# EAGLE library part GS4910B (library gennum)
HD/SD/Graphics Clock and Timing Generator with GENLOCK Source: http://www.gennum.com/video/pdf/36655DOC.pdf
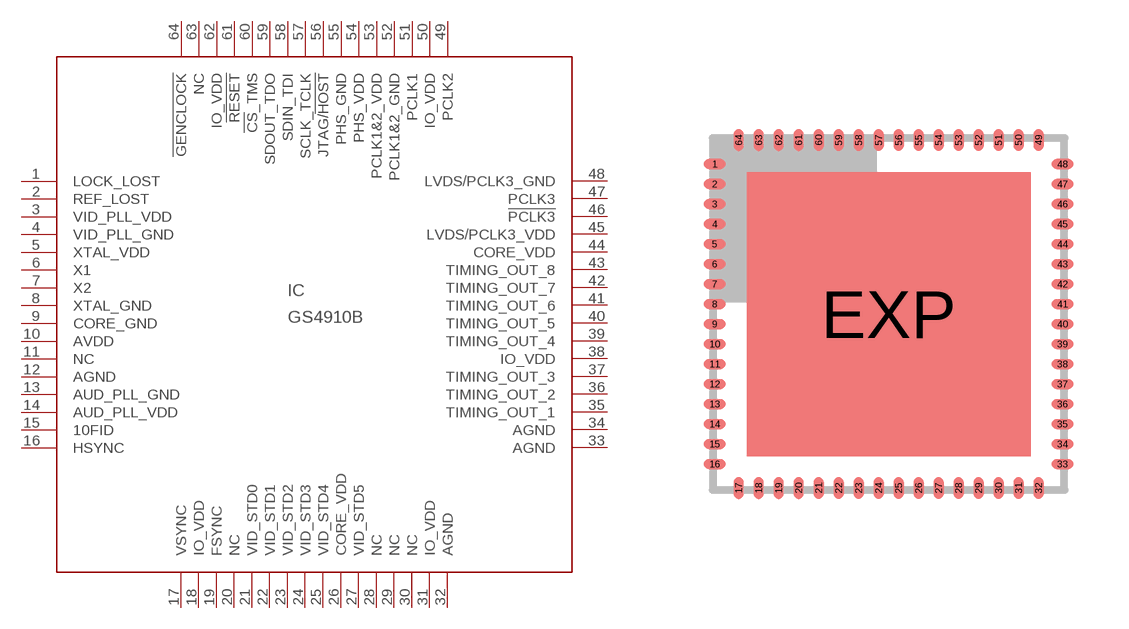
[diagram p1: symbol with the pads of QFN64-9X9; footprint QFN64-9X9]

Designator prefix IC

## GS4910B (OC_FARNELL: unknown; OC_NEWARK: unknown)  [QFN64-9X9]
1  LOCK_LOST  out
2  REF_LOST  out
3  VID_PLL_VDD  pwr
4  VID_PLL_GND  pwr
5  XTAL_VDD  pwr
6  X1  in
7  X2  out
8  XTAL_GND  pwr
9  CORE_GND  pwr
10  AVDD  pwr
11  NC  nc
12  AGND  pwr
13  AUD_PLL_GND  pwr
14  AUD_PLL_VDD  pwr
15  10FID  in
16  HSYNC  in
17  VSYNC  in
18  IO_VDD  pwr
19  FSYNC  in
20  NC  nc
21  VID_STD0  in
22  VID_STD1  in
23  VID_STD2  in
24  VID_STD3  in
25  VID_STD4  in
26  CORE_VDD  pwr
27  VID_STD5  in
28  NC  nc
29  NC  nc
30  NC  nc
31  IO_VDD  pwr
32  AGND  pwr
33  AGND  pwr
34  AGND  pwr
35  TIMING_OUT_1  out
36  TIMING_OUT_2  out
37  TIMING_OUT_3  out
38  IO_VDD  pwr
39  TIMING_OUT_4  out
40  TIMING_OUT_5  out
41  TIMING_OUT_6  out
42  TIMING_OUT_7  out
43  TIMING_OUT_8  out
44  CORE_VDD  pwr
45  LVDS/PCLK3_VDD  pwr
46  !PCLK3  out
47  PCLK3  out
48  LVDS/PCLK3_GND  pwr
49  PCLK2  out
50  IO_VDD  pwr
51  PCLK1  out
52  PCLK1&2_GND  pwr
53  PCLK1&2_VDD  pwr
54  PHS_VDD  pwr
55  PHS_GND  pwr
56  JTAG/!HOST  in
57  SCLK_TCLK  in
58  SDIN_TDI  in
59  SDOUT_TDO  out
60  !CS!_TMS  in
61  !RESET  in
62  IO_VDD  pwr
63  NC  nc
64  !GENCLOCK  in

## Footprint QFN64-9X9 (pad centres in mm)
QFN64-9X9 Source: http://www.gennum.com/video/pdf/36655DOC.pdf
smd 0.55 x 0.25: 1 -4.35,3.75; 2 -4.35,3.25; 3 -4.35,2.75; 4 -4.35,2.25; 5 -4.35,1.75; 6 -4.35,1.25; 7 -4.35,0.75; 8 -4.35,0.25; 9 -4.35,-0.25; 10 -4.35,-0.75; 11 -4.35,-1.25; 12 -4.35,-1.75; 13 -4.35,-2.25; 14 -4.35,-2.75; 15 -4.35,-3.25; 16 -4.35,-3.75; 33 4.35,-3.75; 34 4.35,-3.25; 35 4.35,-2.75; 36 4.35,-2.25; 37 4.35,-1.75; 38 4.35,-1.25; 39 4.35,-0.75; 40 4.35,-0.25; 41 4.35,0.25; 42 4.35,0.75; 43 4.35,1.25; 44 4.35,1.75; 45 4.35,2.25; 46 4.35,2.75; 47 4.35,3.25; 48 4.35,3.75
smd 0.25 x 0.55: 17 -3.75,-4.35; 18 -3.25,-4.35; 19 -2.75,-4.35; 20 -2.25,-4.35; 21 -1.75,-4.35; 22 -1.25,-4.35; 23 -0.75,-4.35; 24 -0.25,-4.35; 25 0.25,-4.35; 26 0.75,-4.35; 27 1.25,-4.35; 28 1.75,-4.35; 29 2.25,-4.35; 30 2.75,-4.35; 31 3.25,-4.35; 32 3.75,-4.35; 49 3.75,4.35; 50 3.25,4.35; 51 2.75,4.35; 52 2.25,4.35; 53 1.75,4.35; 54 1.25,4.35; 55 0.75,4.35; 56 0.25,4.35; 57 -0.25,4.35; 58 -0.75,4.35; 59 -1.25,4.35; 60 -1.75,4.35; 61 -2.25,4.35; 62 -2.75,4.35; 63 -3.25,4.35; 64 -3.75,4.35
smd 7.1 x 7.1: EXP 0,0